# Altium footprint library SamacSys.PcbLib: 5 footprints
Each footprint in its own frame and in the unit in brackets; x right, y up, seen from the top. Pads: shape width x height; smd on the part's side, far side on the other; paste and mask are expansions set on the pad; w line width, h text height; cw(c..) or ccw(c..) is an arc to the next point about the centre after c.
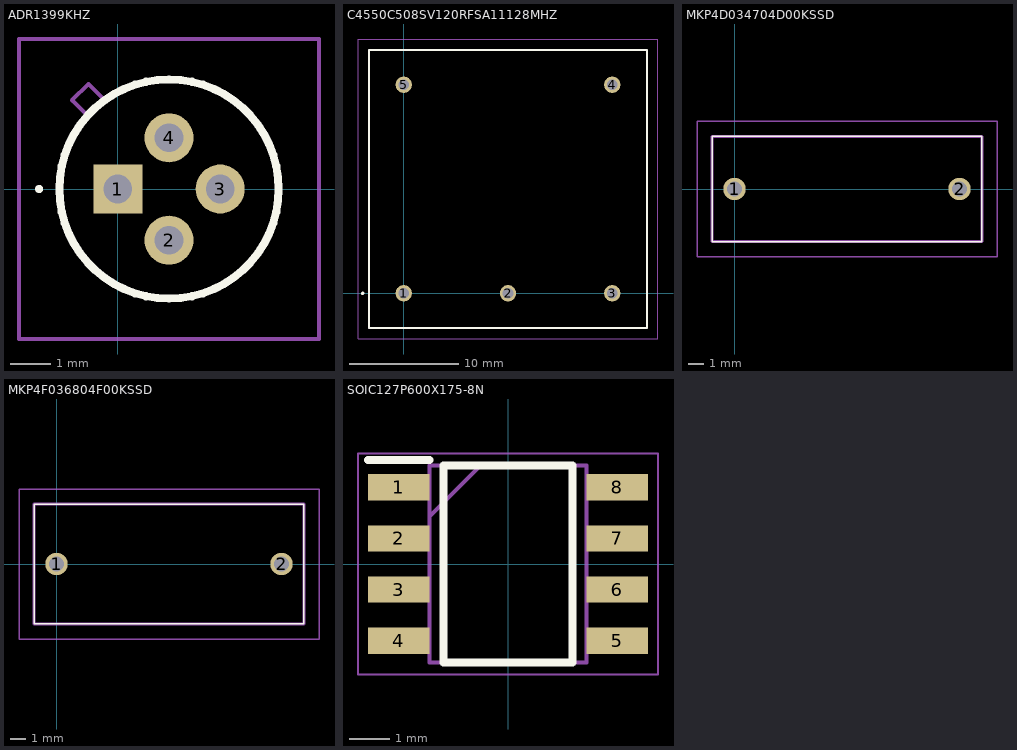
[diagram p0: the footprints below, top view; thin cyan lines are the x and y axes]

## ADR1399KHZ [mm]
pads (4):
  rect 1.214x1.214 hole 0.708: 1(0,0)
  round 1.214 hole 0.708: 2(1.27,-1.27) 3(2.54,0) 4(1.27,1.27)
Top Overlay:
  lines w0.1: -2,0 ccw(c-1.95,0) -1.9,0 ccw(c-1.95,0) -2,0
  lines w0.2: -1.448,0 ccw(c1.27,0) 3.988,0 ccw(c1.27,0) -1.448,0
Mechanical 13:
  lines w0.1: -0.73,1.8 -1.13,2.2 -0.73,2.6 -0.33,2.2 ; -1.448,0 ccw(c1.27,0) 3.988,0 ccw(c1.27,0) -1.448,0
Mechanical 15:
  lines w0.1: -2.448,-3.718 4.988,-3.718 4.988,3.718 -2.448,3.718 -2.448,-3.718
3D body "User Library-TO-46-4pins.STEP": height 6.1, standoff -2.83, extent -6.452,-7.543 8.813,7.722

## C4550C508SV120RFSA11128MHZ [mm]
pads (5):
  round 1.493 hole 0.96: 1(0,0) 2(9.525,0) 3(19.05,0) 4(19.05,19.05) 5(0,19.05)
Top Overlay:
  lines w0.2: -3.8,0 cw(c-3.75,0) -3.7,0 ; -3.8,0 ccw(c-3.75,0) -3.7,0 ; -3.8,0 -3.7,0 ; -3.175,-3.175 -3.175,22.225 22.225,22.225 22.225,-3.175 -3.175,-3.175
Mechanical 13:
  lines w0.1: -3.175,-3.175 -3.175,22.225 22.225,22.225 22.225,-3.175 -3.175,-3.175
Mechanical 15:
  lines w0.1: -4.175,-4.175 -4.175,23.225 23.225,23.225 23.225,-4.175 -4.175,-4.175
3D body "C4550C508SV120RFSA1112.8MHZ.stp": height 11.35, standoff -5, extent -3.175,-3.175 22.225,22.225

## MKP4D034704D00KSSD [mm]
pads (2):
  round 1.5 hole 1: 1(0,0) 2(15,0)
Top Overlay:
  lines w0.1: -1.5,-3.5 16.5,-3.5 16.5,3.5 -1.5,3.5 -1.5,-3.5
Mechanical 13:
  lines w0.2: -1.5,-3.5 16.5,-3.5 16.5,3.5 -1.5,3.5 -1.5,-3.5
Mechanical 15:
  lines w0.1: -2.5,-4.5 17.5,-4.5 17.5,4.5 -2.5,4.5 -2.5,-4.5
3D body "MKP4D034704D00KSSD.stp": height 14.1, standoff -5, extent -1.5,-3.5 16.5,3.5

## MKP4F036804F00KSSD [mm]
pads (2):
  round 1.5 hole 1: 1(0,0) 2(15,0)
Top Overlay:
  lines w0.1: -1.5,-4 -1.5,4 16.5,4 16.5,-4 -1.5,-4
Mechanical 13:
  lines w0.2: -1.5,-4 -1.5,4 16.5,4 16.5,-4 -1.5,-4
Mechanical 15:
  lines w0.1: -2.5,-5 -2.5,5 17.5,5 17.5,-5 -2.5,-5
3D body "MKP4F036804F00KSSD.stp": height 15.1, standoff -5, extent -1.5,-4 16.5,4

## SOIC127P600X175-8N [mm]
pads (8):
  rect 1.525x0.65 smd: 1(-2.712,1.905) 2(-2.712,0.635) 3(-2.712,-0.635) 4(-2.712,-1.905) 5(2.712,-1.905) 6(2.712,-0.635) 7(2.712,0.635) 8(2.712,1.905)
Top Overlay:
  lines w0.2: -3.475,2.58 -1.95,2.58 ; -1.6,-2.45 1.6,-2.45 1.6,2.45 -1.6,2.45 -1.6,-2.45
Mechanical 13:
  lines w0.1: -1.95,1.18 -0.68,2.45 ; -1.95,-2.45 1.95,-2.45 1.95,2.45 -1.95,2.45 -1.95,-2.45
Mechanical 15:
  lines w0.05: -3.725,-2.75 3.725,-2.75 3.725,2.75 -3.725,2.75 -3.725,-2.75
3D body "NE555DR.stp": height 1.75, standoff 0, extent -3,-2.45 3,2.45